# EAGLE library part TPS65218 (library df4iah_powersupply)
Power Management for ARM® Cortex™-A8/A9 SOCs and FPGA data entry: DF4IAH
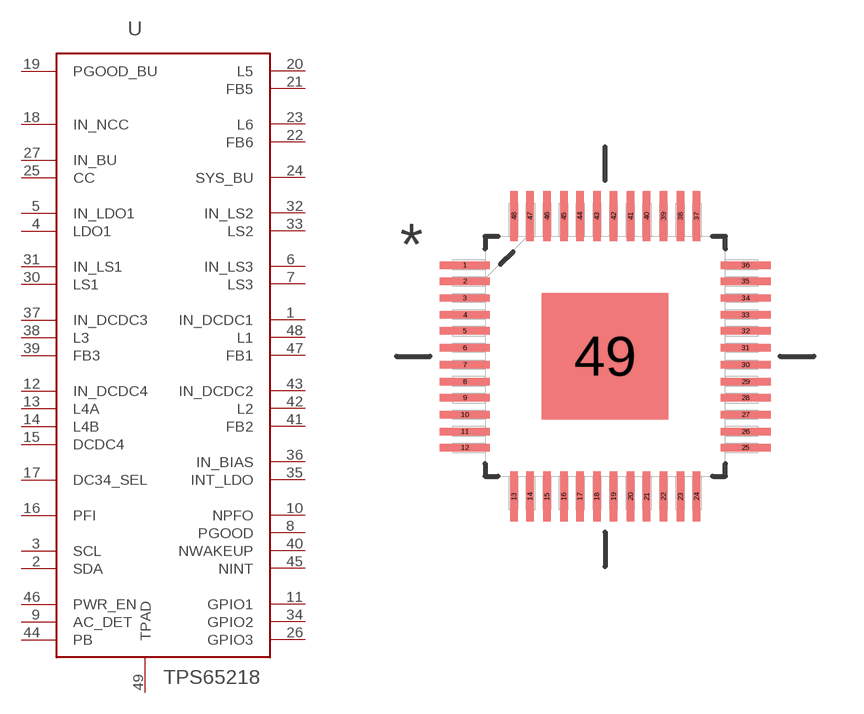
[diagram p0: symbol with the pads of QFP50P900X900X120-49N2; footprint QFP50P900X900X120-49N2]

Designator prefix U

## TPS65218 (OC_DIGIKEY: 296-38610-1-ND; OC_FARNELL: 2471164; OC_MOUSER: 595-TPS65218B1PHPT; OC_NEWARK: 31Y6654; PACKAGE: HTQFP-48; SUPPLIER: TEXAS INSTRUMENTS)  [QFP50P900X900X120-49N2]
1  IN_DCDC1  pwr
2  SDA
3  SCL  in
4  LDO1  out
5  IN_LDO1  pwr
6  IN_LS3  pwr
7  LS3  out
8  PGOOD  out
9  AC_DET  in
10  NPFO  out
11  GPIO1
12  IN_DCDC4  pwr
13  L4A
14  L4B
15  DCDC4  sup
16  PFI  in
17  DC34_SEL  in
18  IN_NCC  out
19  PGOOD_BU  out
20  L5  out
21  FB5
22  FB6
23  L6  out
24  SYS_BU
25  CC
26  GPIO3
27  IN_BU  pwr
30  LS1  out
31  IN_LS1  pwr
32  IN_LS2  pwr
33  LS2  out
34  GPIO2
35  INT_LDO
36  IN_BIAS
37  IN_DCDC3  pwr
38  L3  out
39  FB3  in
40  NWAKEUP  out
41  FB2  in
42  L2  out
43  IN_DCDC2  pwr
44  PB  in
45  NINT  out
46  PWR_EN  in
47  FB1  in
48  L1  out
49  TPAD

## Footprint QFP50P900X900X120-49N2 (pad centres in mm)
HTQFP(48) following Texas-Instruments naming convention 1. PHP S-PQFP-G48 following Texas-Instruments naming convention 2. chip size: 7.000 mm X 7.000 mm outline: 9.000 mm X 9.000 mm modified by DF4IAH.
smd 1.5 x 0.225: 1 -4.216,2.743; 2 -4.216,2.261; 3 -4.216,1.753; 4 -4.216,1.245; 5 -4.216,0.762; 6 -4.216,0.254; 7 -4.216,-0.254; 8 -4.216,-0.762; 9 -4.216,-1.245; 10 -4.216,-1.753; 11 -4.216,-2.261; 12 -4.216,-2.743; 25 4.216,-2.743; 26 4.216,-2.261; 27 4.216,-1.753; 28 4.216,-1.245; 29 4.216,-0.762; 30 4.216,-0.254; 31 4.216,0.254; 32 4.216,0.762; 33 4.216,1.245; 34 4.216,1.753; 35 4.216,2.261; 36 4.216,2.743
smd 0.225 x 1.5: 13 -2.743,-4.216; 14 -2.261,-4.216; 15 -1.753,-4.216; 16 -1.245,-4.216; 17 -0.762,-4.216; 18 -0.254,-4.216; 19 0.254,-4.216; 20 0.762,-4.216; 21 1.245,-4.216; 22 1.753,-4.216; 23 2.261,-4.216; 24 2.743,-4.216; 37 2.743,4.216; 38 2.261,4.216; 39 1.753,4.216; 40 1.245,4.216; 41 0.762,4.216; 42 0.254,4.216; 43 -0.254,4.216; 44 -0.762,4.216; 45 -1.245,4.216; 46 -1.753,4.216; 47 -2.261,4.216; 48 -2.743,4.216
smd 3.8 x 3.8: 49 0,0